# Altium schematic symbol library MAX6816.SchLib: 1 symbol
Pins are listed as number, name and electrical type; pins without a type are passive.

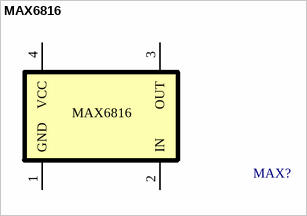
[diagram p0: symbol MAX6816]

## MAX6816
designator MAX?  (value not drawn)
footprint MAX6816
pins: 1 GND, 2 IN, 3 OUT, 4 VCC